# EAGLE library part ADA4853-1 (library analog-devices_custom)
Low Power, Rail-to-Rail Output, Video Op Amps with Ultralow Power Source: http://www.analog.com/static/imported-files/data_sheets/ADA4853-1_4853-2_4853-3.pdf
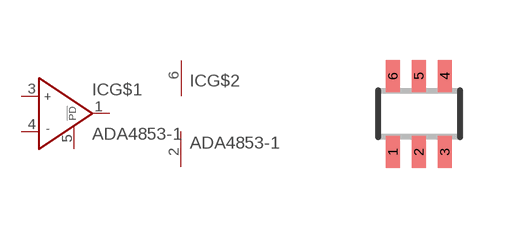
[diagram p146: symbol with the pads of SC70-6; footprint SC70-6]

Designator prefix IC; gates G$1=OP_PD G$2=PWR+-

## ADA4853-1 (OC_FARNELL: unknown; OC_NEWARK: unknown)  [SC70-6]
1  G$1:OUT  out
2  G$2:V-  pwr
3  G$1:IN+  in
4  G$1:IN-  in
5  G$1:!POWERDOWN  pas
6  G$2:V+  pwr

## Footprint SC70-6 (pad centres in mm)
6-Lead Thin Shrink Small Outline Transistor Package SC70 Source: http://www.analog.com/static/imported-files/data_sheets/ADA4853-1_4853-2_4853-3.pdf
smd 0.35 x 0.8: 1 -0.65,-0.95; 2 0,-0.95; 3 0.65,-0.95; 4 0.65,0.95; 5 0,0.95; 6 -0.65,0.95